# Altium footprint library SOT95P240X120-3N.PcbLib: 1 footprints
Each footprint in its own frame and in the unit in brackets; x right, y up, seen from the top. Pads: shape width x height; smd on the part's side, far side on the other; paste and mask are expansions set on the pad; w line width, h text height; cw(c..) or ccw(c..) is an arc to the next point about the centre after c.
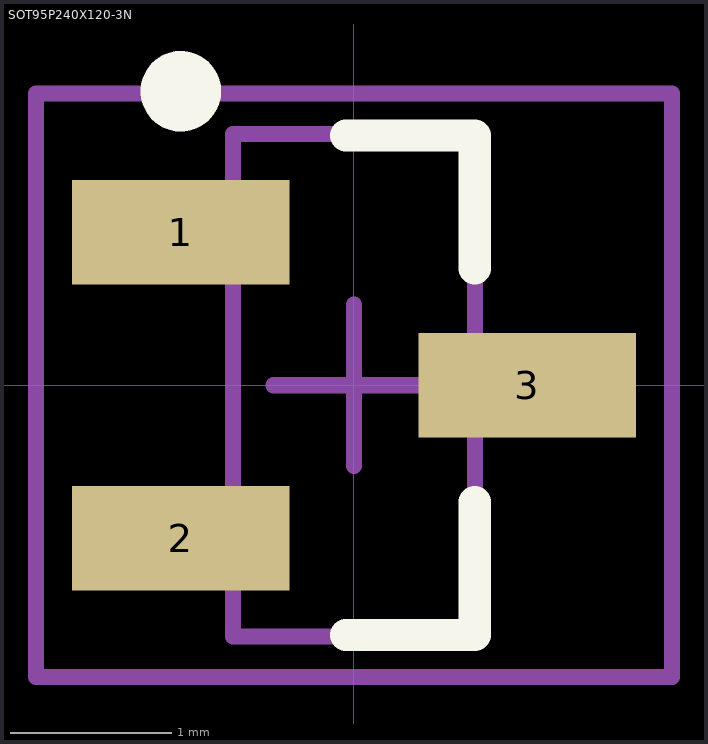
[diagram p0: the footprint, top view; thin cyan lines are the x and y axes]

## SOT95P240X120-3N [mm] "SOT23, 3-Leads, Body 3.1x2.7mm (max), Pitch 0.95mm, IPC Medium Density"
height 1.2
pads (3):
  rect 1.35x0.65 smd: 1(-1.075,0.95) 2(-1.075,-0.95) 3(1.075,0)
Top Overlay:
  circle w0.25: c-1.075,1.825 r0.125
  lines w0.2: -0.05,-1.55 0.75,-1.55 0.75,-0.725 ; -0.05,1.55 0.75,1.55 0.75,0.725
Mechanical 13:
  lines w0.1: -0.75,-1.56 0.75,-1.56 0.75,1.56 -0.75,1.56 -0.75,-1.56
Mechanical 15:
  lines w0.1: -0.5,0 0.5,0 ; 0,-0.5 0,0.5 ; -1.975,-1.81 1.975,-1.81 1.975,1.81 -1.975,1.81 -1.975,-1.81
3D body: height 1.2, standoff 0, extent -0.75,-1.56 0.75,1.56